# Altium schematic symbol library 24AA02E48.SchLib: 1 symbol
Pins are listed as number, name and electrical type; pins without a type are passive.

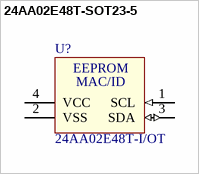
[diagram p0: symbol 24AA02E48T-SOT23-5]

## 24AA02E48T-SOT23-5
designator U?  value 24AA02E48T-I/OT  (hidden comment: 24AA02E48T-SOT23-5)
24AA02E48T-I/OT
footprint DBV005_N (SOT23, 5-Leads, Body 2.9x1.6mm, Pitch 0.95mm, Lead Span 2.8mm, IPC Medium Density)
pins: 1 SCL (in), 2 VSS (power), 3 SDA (io), 4 VCC (power)
text: EEPROM; MAC/ID